# Altium footprint library inductor.PcbLib: 2 footprints
Each footprint in its own frame and in the unit in brackets; x right, y up, seen from the top. Pads: shape width x height; smd on the part's side, far side on the other; paste and mask are expansions set on the pad; w line width, h text height; cw(c..) or ccw(c..) is an arc to the next point about the centre after c.
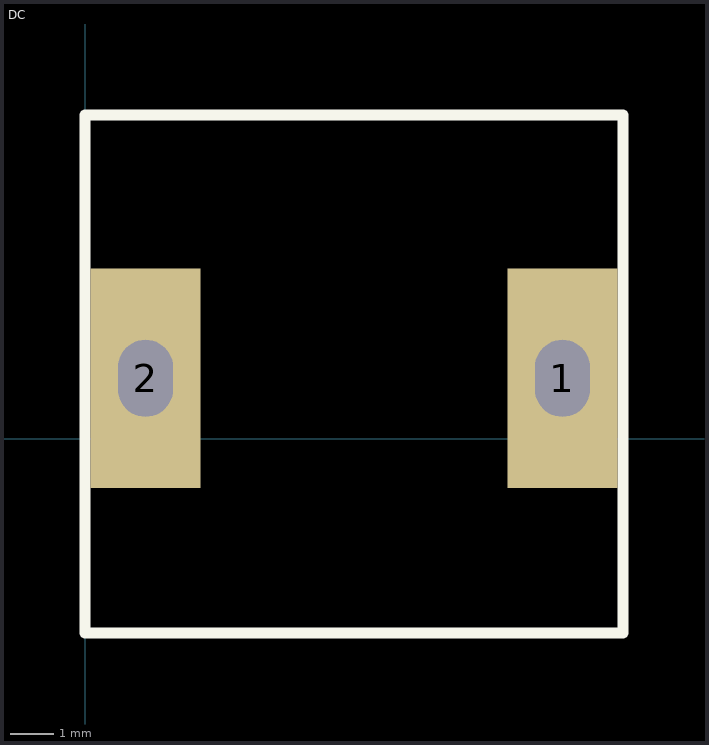
[diagram p0: the footprints below, top view; thin cyan lines are the x and y axes]

## DC [mil] "DC Power Jack, 2.5mm, KLD Series, PCB Mount"
pads (2):
  rect 100x200 hole 50 slot 70 at 90 deg: 1(435,55) 2(55,55)
Top Overlay:
  lines w10: 0,-177.17 0,295 490,295 490,267.5 490,180 490,-177.17 0,-177.17

## PCBComponent_1 [mil]